# Altium footprint library MCU1.PcbLib: 20 footprints (part 1 of 2)
Each footprint in its own frame and in the unit in brackets; x right, y up, seen from the top. Pads: shape width x height; smd on the part's side, far side on the other; paste and mask are expansions set on the pad; w line width, h text height; cw(c..) or ccw(c..) is an arc to the next point about the centre after c.
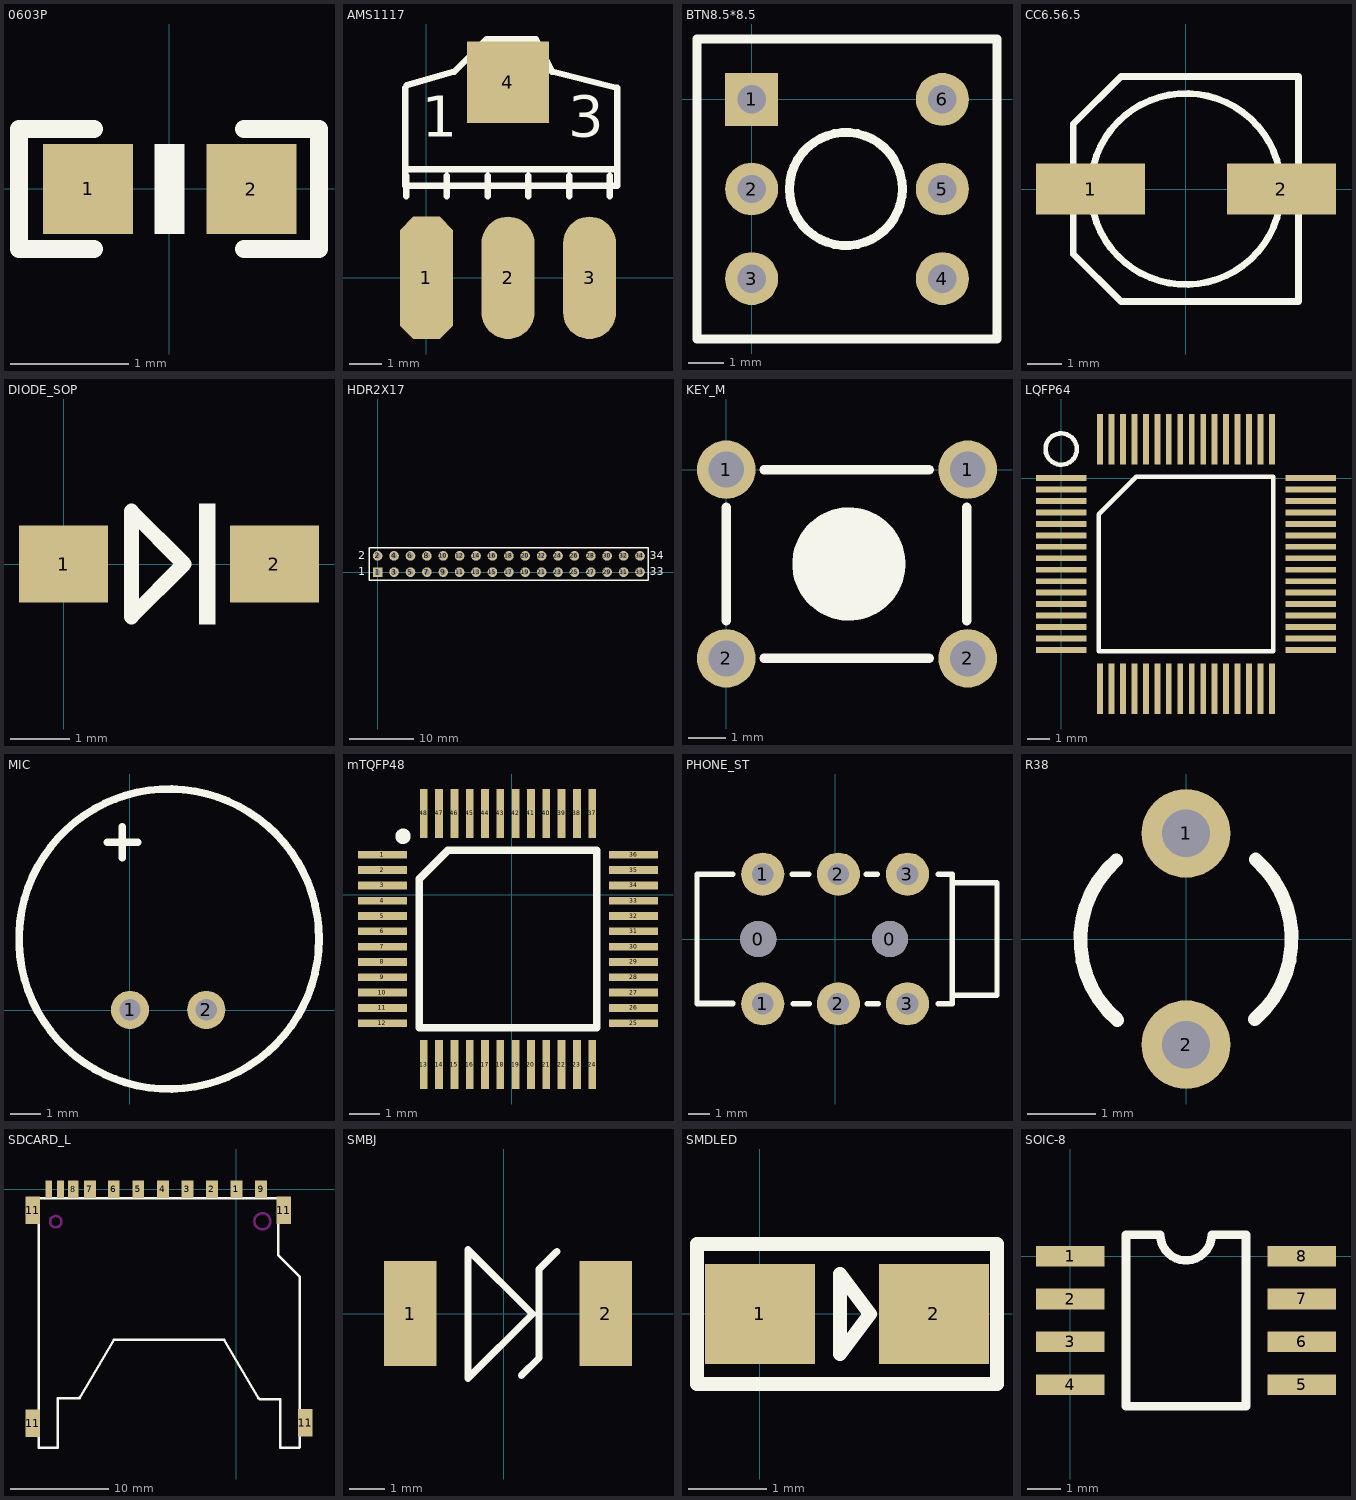
[diagram p0: the footprints below, top view; thin cyan lines are the x and y axes]

## 0603P [mil]
pads (2):
  rect 30x30 smd: 1(-27,0) 2(27.5,-0.06)
Top Overlay:
  region: 5.1,-15.09 5.1,14.91 -4.9,14.91 -4.9,-15.09
  lines w6: -25,-20.06 -50,-20.06 -50,19.94 -25,19.94 ; 25,-20.06 50,-20.06 50,19.94 25,19.94

## AMS1117 [mil]
pads (4):
  oct 65x150 smd: 1(0.03,-0.06)
  oval 65x150 smd: 2(100.03,-0.06) 3(200.03,-0.06)
  rect 100x100 smd: 4(100.03,239.94)
Top Overlay:
  lines w7.87: -25.97,232.94 -25.97,132.94 ; -24.97,99.94 -24.97,124.94 ; -24.3,236.27 34.03,252.94 74.03,292.94 134.03,292.94 154.03,252.94 234.03,232.94 234.03,112.94 ; 25.03,99.94 25.03,124.94 ; 75.03,99.94 75.03,124.94 ; 125.03,99.94 125.03,124.94 ; 175.03,99.94 175.03,124.94 ; 225.03,99.94 225.03,124.94 ; -25.97,132.94 234.03,132.94 234.03,112.94 ; -25.97,132.94 -25.97,112.94 234.03,112.94
  text "3" at 174.03,172.94 h50
  text "1" at -5.97,172.94 h50

## BTN8.5*8.5 [mm]
pads (6):
  rect 1.5x1.5 hole 0.8: 1(0,0)
  round 1.5 hole 0.8: 2(0,-2.54) 3(0,-5.08) 4(5.4,-5.08) 5(5.4,-2.54) 6(5.4,0)
Top Overlay:
  circle w0.254: c2.667,-2.54 r1.6
  lines w0.254: -1.55,-6.79 -1.55,1.71 6.95,1.71 6.95,-6.79 -1.55,-6.79

## CC6.56.5 [mm]
pads (2):
  rect 3.2x1.5 smd: 1(-2.794,0) 2(2.8,0)
Top Overlay:
  circle w0.2: c0,0 r2.8
  lines w0.2: -3.302,-1.905 -3.302,1.905 -1.905,3.302 3.302,3.302 3.302,-3.302 -1.905,-3.302 -3.302,-1.905

## DIODE_SOP [mm]
pads (2):
  rect 1.5x1.3 smd: 1(0,0) 2(3.556,0)
Top Overlay:
  rectangle: 2.286,-1.016 2.559,1.016
  lines w0.254: 1.143,-0.889 1.143,0.889 2.032,0 1.143,-0.889

## HDR2X17 [mm]
pads (34):
  rect 1.5x1.5 hole 0.9: 1(0,0)
  round 1.5 hole 0.9: 2(0,2.54) 3(2.54,0) 4(2.54,2.54) 5(5.08,0) 6(5.08,2.54) 7(7.62,0) 8(7.62,2.54) 9(10.16,0) 10(10.16,2.54) 11(12.7,0) 12(12.7,2.54) 13(15.24,0) 14(15.24,2.54) 15(17.78,0) 16(17.78,2.54) 17(20.32,0) 18(20.32,2.54) 19(22.86,0) 20(22.86,2.54) 21(25.4,0) 22(25.4,2.54) 23(27.94,0) 24(27.94,2.54) 25(30.48,0) 26(30.48,2.54) 27(33.02,0) 28(33.02,2.54) 29(35.56,0) 30(35.56,2.54) 31(38.1,0) 32(38.1,2.54) 33(40.64,0) 34(40.64,2.54)
Top Overlay:
  lines w0.2: -1.27,-1.27 41.91,-1.27 41.91,3.81 -1.27,3.81 -1.27,-1.27
  text "34" at 42.164,2.032 h1.27
  text "33" at 42.164,-0.508 h1.27
  text "1" at -3.048,-0.508 h1.27
  text "2" at -3.048,2.032 h1.27

## KEY_M [mil]
pads (4):
  round 62 hole 38: 1(0,0) 1(255.91,0) 2(0,-200) 2(255.91,-200)
Top Overlay:
  circle w60: c130,-100 r30
  lines w10: -0.03,-160 -0.03,-40 ; 39.97,-200 215,-200 ; 39.97,0 215,0 ; 255,-160 255,-40

## LQFP64 [mm]
pads (64):
  rect 2.2x0.254 smd: 1(0,0) 2(0,-0.5) 3(0,-1) 4(0,-1.5) 5(0,-2) 6(0,-2.5) 7(0,-3) 8(0,-3.5) 9(0,-4) 10(0,-4.5) 11(0,-5) 12(0,-5.5) 13(0,-6) 14(0,-6.5) 15(0,-7) 16(0,-7.5) 33(10.9,-7.5) 34(10.9,-7) 35(10.9,-6.5) 36(10.9,-6) 37(10.9,-5.5) 38(10.9,-5) 39(10.9,-4.5) 40(10.9,-4) 41(10.9,-3.5) 42(10.9,-3) 43(10.9,-2.5) 44(10.9,-2) 45(10.9,-1.5) 46(10.9,-1) 47(10.9,-0.5) 48(10.9,0)
  rect 0.254x2.2 smd: 17(1.7,-9.2) 18(2.2,-9.2) 19(2.7,-9.2) 20(3.2,-9.2) 21(3.7,-9.2) 22(4.2,-9.2) 23(4.7,-9.2) 24(5.2,-9.2) 25(5.7,-9.2) 26(6.2,-9.2) 27(6.7,-9.2) 28(7.2,-9.2) 29(7.7,-9.2) 30(8.2,-9.2) 31(8.7,-9.2) 32(9.2,-9.2) 49(9.2,1.7) 50(8.7,1.7) 51(8.2,1.7) 52(7.7,1.7) 53(7.2,1.7) 54(6.7,1.7) 55(6.2,1.7) 56(5.7,1.7) 57(5.2,1.7) 58(4.7,1.7) 59(4.2,1.7) 60(3.7,1.7) 61(3.2,1.7) 62(2.7,1.7) 63(2.2,1.7) 64(1.7,1.7)
Top Overlay:
  circle w0.2: c0,1.27 r0.684
  lines w0.2: 1.635,-7.565 9.265,-7.565 9.265,0.065 3.27,0.065 1.635,-1.57 1.635,-7.565

## MIC [mil]
pads (2):
  round 50 hole 28: 1(0.42,0.29) 2(100.42,0.29)
Top Overlay:
  circle w10: c51.58,93.29 r196.85
  lines w10: -29.58,220.29 10.42,220.29 ; -9.58,200.29 -9.58,240.29

## mTQFP48 [mm]
pads (48):
  rect 1.6x0.254 smd: 1(-4.223,1.3) 2(-4.223,0.8) 3(-4.223,0.3) 4(-4.223,-0.2) 5(-4.223,-0.7) 6(-4.223,-1.2) 7(-4.223,-1.7) 8(-4.223,-2.2) 9(-4.223,-2.7) 10(-4.223,-3.2) 11(-4.223,-3.7) 12(-4.223,-4.2) 25(3.977,-4.2) 26(3.977,-3.7) 27(3.977,-3.2) 28(3.977,-2.7) 29(3.977,-2.2) 30(3.977,-1.7) 31(3.977,-1.2) 32(3.977,-0.7) 33(3.977,-0.2) 34(3.977,0.3) 35(3.977,0.8) 36(3.977,1.3)
  rect 0.254x1.6 smd: 13(-2.873,-5.55) 14(-2.373,-5.55) 15(-1.873,-5.55) 16(-1.373,-5.55) 17(-0.873,-5.55) 18(-0.373,-5.55) 19(0.127,-5.55) 20(0.627,-5.55) 21(1.127,-5.55) 22(1.627,-5.55) 23(2.127,-5.55) 24(2.627,-5.55) 37(2.627,2.65) 38(2.127,2.65) 39(1.627,2.65) 40(1.127,2.65) 41(0.627,2.65) 42(0.127,2.65) 43(-0.373,2.65) 44(-0.873,2.65) 45(-1.373,2.65) 46(-1.873,2.65) 47(-2.373,2.65) 48(-2.873,2.65)
Top Overlay:
  circle w0.25: c-3.554,1.905 r0.125
  lines w0.2: -3.023,-4.35 2.777,-4.35 2.777,1.45
  lines w0.254: -3.023,0.508 -2.081,1.45 ; -3.023,0.508 -3.023,-4.35 2.777,-4.35 2.777,1.45 -1.397,1.45 -2.081,1.45 ; -3.023,0.508 -2.081,1.45

## PHONE_ST [mm]
pads (8):
  round 1.676 hole 1.676: 0(-3.556,0) 0(2.54,0)
  round 2 hole 1: 1(-3.35,-3) 1(-3.35,3) 2(0.15,-3) 2(0.15,3) 3(3.35,-3) 3(3.35,3)
Top Overlay:
  lines w0.254: -6.393,-2.969 -4.742,-2.969 ; -4.742,-3.007 -6.393,-3.007 -6.393,3 -4.742,3 ; -1.986,3 -1.224,3 ; -1.948,-3.007 -1.186,-3.007 ; 1.443,3 1.951,3 ; 1.481,-3.007 1.989,-3.007 ; 4.783,-3.007 5.33,-3.007 ; 4.783,3 5.418,3 5.418,-3.007 ; 5.418,-2.6 7.493,-2.6 7.493,2.6 5.418,2.6

## R38 [mm]
pads (2):
  round 1.3 hole 0.7: 1(0,1.55) 2(0,-1.55)
Top Overlay:
  lines w0.2: -1.022,1.155 ccw(c0,-0.01) -1.006,-1.189 ; 1.006,-1.179 ccw(c0,0) 1.022,1.165

## SDCARD_L [mm]
pads (15):
  rect 1.2x1.8 smd: 1(0,0) 2(-2.489,0) 3(-4.983,-0.009) 4(-7.483,-0.009) 5(-9.983,-0.009) 6(-12.483,-0.009) 7(-14.908,-0.009) 9(2.517,-0.009)
  rect 1.1x1.8 smd: 8(-16.612,0)
  rect 0.7x1.8 smd: 10(-17.908,-0.009) 12(-19.101,0)
  rect 1.5x2.8 smd: 11(-20.726,-23.834) 11(-20.726,-2.143) 11(4.826,-2.143) 11(7.01,-23.784)
Top Overlay:
  lines w0.254: -18.158,-21.3 -18.158,-26.3 -20.131,-26.3 -20.131,-0.914 -20.117,-0.9 4.242,-0.9 4.242,-6.71 6.431,-8.899 6.442,-8.899 6.442,-26.273 6.415,-26.3 4.442,-26.3 4.442,-21.402 2.4,-21.402 2.242,-21.244 ; -18.107,-21.294 -16.065,-21.294 -15.907,-21.136 ; -15.958,-21.294 -12.446,-15.3 ; -12.458,-15.3 -1.258,-15.3 2.242,-21.294
Keep-Out Layer:
  circle w0.254: c-18.39,-3.3 r0.58
  circle w0.254: c2.642,-3.26 r0.82

## SMBJ [mm]
pads (2):
  rect 1.5x3 smd: 1(-2.667,0) 2(2.921,0)
Top Overlay:
  lines w0.203: 0.508,-1.778 1.016,-1.27 1.016,1.27 1.524,1.778 ; -1.016,-1.854 0.826,-0.013 -1.016,1.829 -1.016,-1.854

## SMDLED [mm]
pads (2):
  rect 1.4x1.27 smd: 1(0.001,-0.002) 2(2.211,-0.002)
Top Overlay:
  lines w0.178: 3.012,0.887 3.011,0.887 ; 3.011,0.887 3.011,-0.891 -0.799,-0.891 -0.799,-0.002 -0.799,0.887 3.011,0.887 ; 1.017,-0.51 1.017,0.506 1.398,-0.002 1.017,-0.51

## SOIC-8 [mil]
pads (8):
  rect 80x24 smd: 1(0,0) 2(0,-50.06) 3(0,-100.06) 4(0,-150.06) 5(270,-150) 6(270,-100) 7(270,-50) 8(270,0)
Top Overlay:
  lines w10: 75,24.94 75.06,25 105,25 ccw(c135,25) 165,25 204.94,25 205,24.94 205,-175.06 65,-175.06 65,24.94 95,24.94